# EAGLE library part 685119135725 (library Wurth_Elektronik_Electromechanic_Input-Output_Connectors_rev16b)
WR-COM Angled SMT HDMI-19p + M3 flange =>Code : Con_I-O_COM_HDMI_685119135725 <http://katalog.we-online.de/media/images/eican/Con_I-O_COM_HDMI_685119135725_pf2.jpg> Details see: http://katalog.we-online.de/en/em/685_119_135_725 Created 2014-07-09, Karrer Zheng 2014 (C) Würth Elektronik
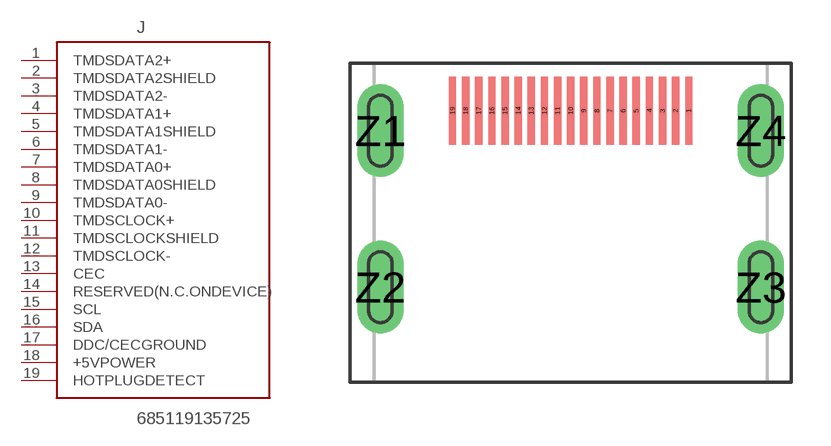
[diagram p146: symbol with the pads of 685119135725; footprint 685119135725]

Designator prefix J

## 685119135725  [685119135725]
1  TMDSDATA2+
2  TMDSDATA2SHIELD
3  TMDSDATA2-
4  TMDSDATA1+
5  TMDSDATA1SHIELD
6  TMDSDATA1-
7  TMDSDATA0+
8  TMDSDATA0SHIELD
9  TMDSDATA0-
10  TMDSCLOCK+
11  TMDSCLOCKSHIELD
12  TMDSCLOCK-
13  CEC
14  RESERVED(N.C.ONDEVICE)
15  SCL
16  SDA
17  DDC/CECGROUND
18  +5VPOWER
19  HOTPLUGDETECT

## Footprint 685119135725 (pad centres in mm)
smd 0.28 x 2.6: 1 -2.75,0.76; 2 -3.25,0.76; 3 -3.75,0.76; 4 -4.25,0.76; 5 -4.75,0.76; 6 -5.25,0.76; 7 -5.75,0.76; 8 -6.25,0.76; 9 -6.75,0.76; 10 -7.25,0.76; 11 -7.75,0.76; 12 -8.25,0.76; 13 -8.75,0.76; 14 -9.25,0.76; 15 -9.75,0.76; 16 -10.25,0.76; 17 -10.75,0.76; 18 -11.25,0.76; 19 -11.75,0.76
drill 0.9 pad 1.778 long: Z1 -14.5,0; Z2 -14.5,-5.96; Z3 0,-5.96; Z4 0,0